# Altium schematic symbol library JWB-001_Main.SCHLIB: 27 symbols
Pins are listed as number, name and electrical type; pins without a type are passive.

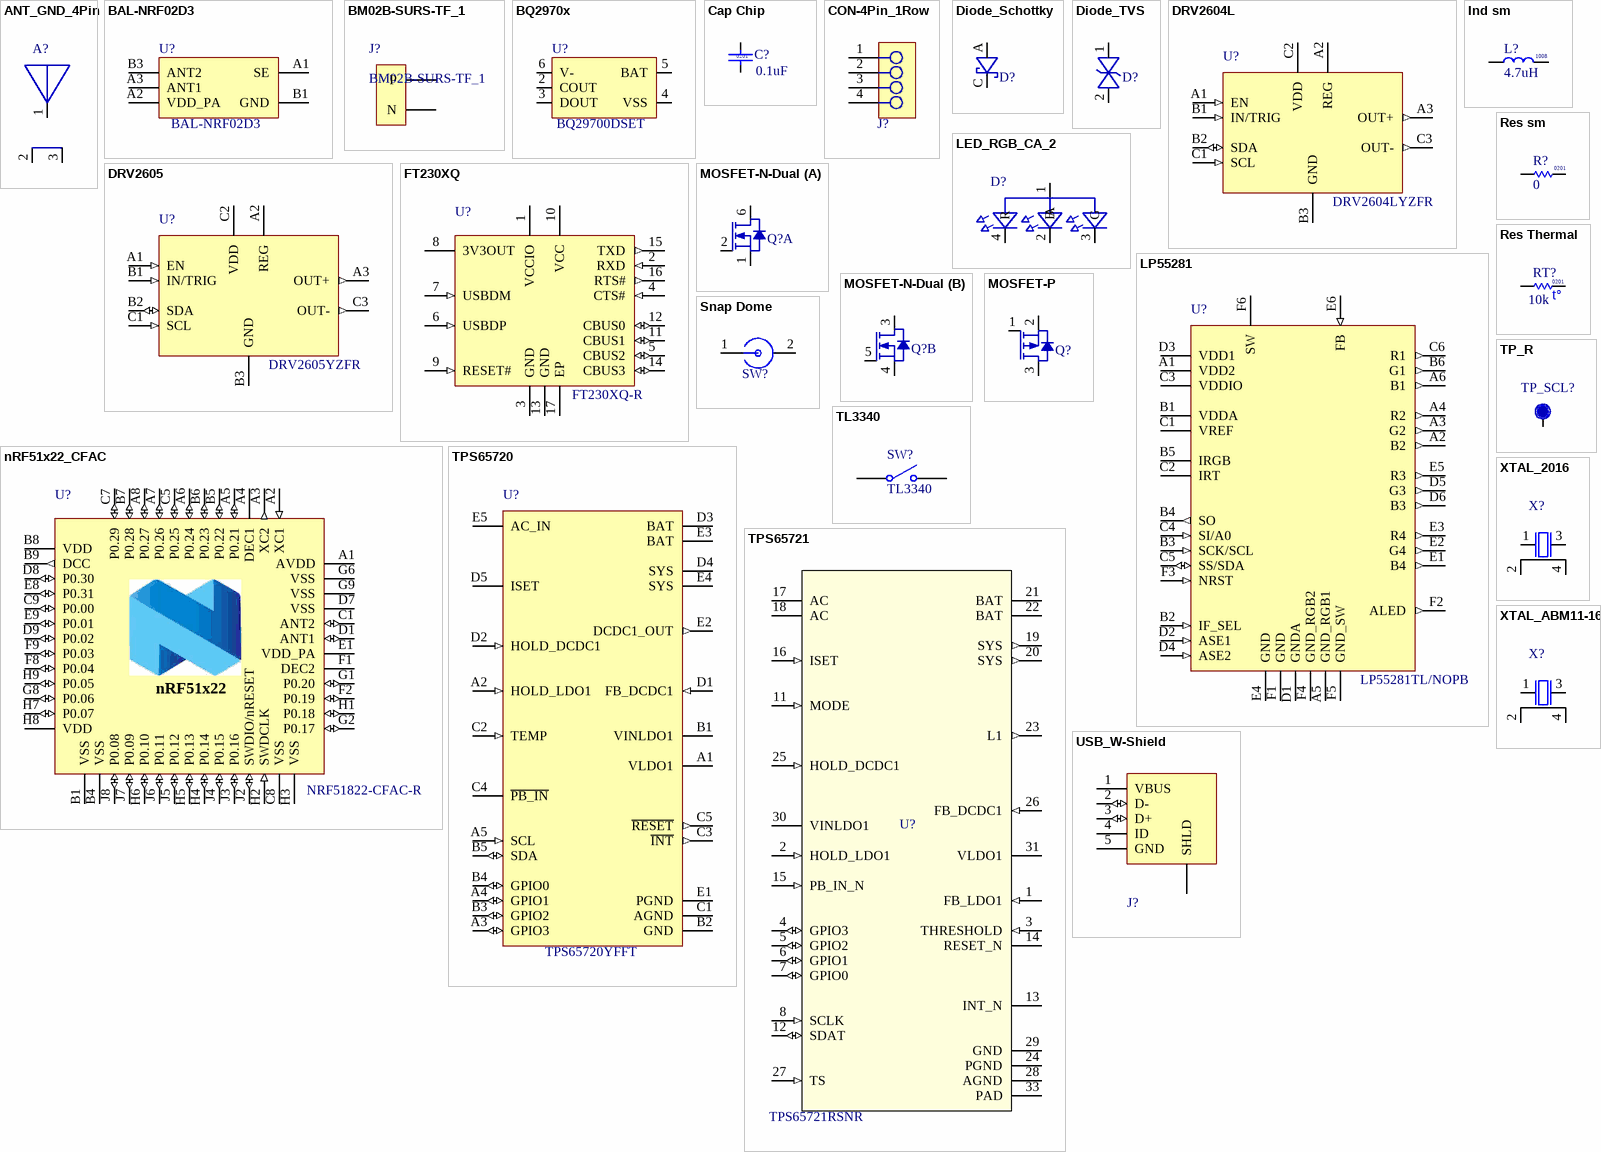
[diagram p0: symbols ANT_GND_4Pin to XTAL_ABM11-16]

## ANT_GND_4Pin
designator A?
ANTENNA SMD EIA 0402 2.4GHZ; MF: Johanson Technology Inc.; MFPN: 2450AT07A0100T; Size: 1mmx0.5mm; Height: 0.37mm; Cost: 1.10000
footprint 2450AT07A0100 (Chip Antenna, 4 pin w/keepout area)
pins: 1, 2 (power), 3 (power)

## BAL-NRF02D3
designator U?  MFPN: BAL-NRF02D3
IC BALUN FOR NRF51822 WLCSP; MF: STMicroelectronics; Size: 1.435mmx.905mm; Cost: 0.80000
footprint BGA0.4P2x3-5Pin (UFBGA, 5 pin 2 row x 3 column, .4mm x .5mm pitch,  1.385mm x .855mm)
pins: A1 SE, A2 VDD_PA, A3 ANT1, B1 GND, B3 ANT2

## BM02B-SURS-TF_1
designator J?
CONN HDR SUR TOP 2POS 0.8MM TIN; MF: JST Sales America Inc.; Pitch: 0.031" (0.80mm); MFPN: BM02B-SURS-TF(LF)(SN); Cost: 0.19072
footprint BM02B-SURS-TF
pins: 1 P, 2 N

## BQ2970x
designator U?  MFPN: BQ29700DSET
IC LITHIUM BATT PROTECT 6-SON; MFG Footprint: DSE (S-PWSON-N6); MF: Texas Instruments; Size: 1.55mm x 1.55mm; Cost: 0.97000
footprint SON0.5P-6Pin (Small Outline No-Lead Package, 0.5pitch, 6 pin, no thermal pad, 1.5mm x 1.5mm)
pins: 1 NC hidden, 2 COUT, 3 DOUT, 4 VSS, 5 BAT, 6 V-

## Cap Chip
designator C?  value 0.1uF  Size: 0201
CAP CER 0.1UF 6.3V 10% X5R 0201; MF: Murata Electronics North America; MFPN: GRM033R60J104KE19D; Cost: 0.10000
simulation model CAP (Semiconductor Capacitor)
signal-integrity model Cap Semi
footprint Cap 0201 HD (Chip Capacitor, 2-Leads, Body 0.60x0.30mm, IPC High Density)
pins: 1, 2

## CON-4Pin_1Row
designator J?
Test points for 4-wire Serial Wire Debugger header Pogo Pin harness, DNP; Size: 4.8mm x 1mm; Cost: 0; MF: N/A; MFPN: N/A
footprint TP10R_1.27P-4Pin (Test Points, 1.0mm Diameter, 1.27mm(0.050") pitch, 4 Pins)
pins: 1, 2, 3, 4

## Diode_Schottky
designator D?
DIODE SCHOTTKY 20V 1A SOD123FL; MF: ON Semiconductor; MFPN: MBR120VLSFT3G; Size: 3.8mm x 1.8mm; Package: SOD-123F; Type: Schottky; Cost: 0.55000
footprint SOD-123F_U (SOD-123F, Unidirectional, 2-Leads, Body 1.65x3.60mm, IPC High Density)
pins: A, C

## Diode_TVS
designator D?
TVS DIODE 6VWM 12VC 0402; MF: TE Connectivity Raychem Circuit Protection; MFPN: SESD0402P1BN-0450-090; Size: 1.1mm x 0.5mm; Type: TVS; Cost: 0.24000
footprint CAP 0402 HD (Chip Capacitor, 2-Leads, Body 1.00x0.50mm, IPC Medium Density)
pins: 1, 2

## DRV2604L
designator U?  MFPN: DRV2604LYZFR
IC ERM/LRA HAPTIC DRIVER 9DSBGA; MF: Texas Instruments; Size: 1.47mm x 1.47mm; Cost: 3.11000
footprint BGA0.5P3x3-9Pin (DSBGA 0.5mm pitch, 3 row x 3 column, 9 Pin, 1.47mm x 1.47mm, TI S-XBGA-N9 YZF)
pins: A1 EN (in), A2 REG (power), A3 OUT+ (out), B1 IN/TRIG (in), B2 SDA (io), B3 GND (power), C1 SCL (in), C2 VDD (power), C3 OUT- (out)

## DRV2605
designator U?  MFPN: DRV2605YZFR
IC ERM/LRA HAPTIC DRIVER 9DSBGA; MF: Texas Instruments; Size: 1.47mm x 1.47mm; Cost: 3.93000
footprint BGA0.5P3x3-9Pin (DSBGA 0.5mm pitch, 3 row x 3 column, 9 Pin, 1.47mm x 1.47mm, TI S-XBGA-N9 YZF)
pins: A1 EN (in), A2 REG (power), A3 OUT+ (out), B1 IN/TRIG (in), B2 SDA (io), B3 GND (power), C1 SCL (in), C2 VDD (power), C3 OUT- (out)

## FT230XQ
designator U?  MFPN: FT230XQ-R
IC USB SERIAL BASIC UART 16QFN; MF: FTDI, Future Technology Devices International Ltd; Height: .8mm; Size: 4.1mm x 4.1mm; Cost: 2.30000
footprint QFN0.65P4x4-16Pin_W-Pad (QFN, 16-Leads, Body 4x4mm, Pitch 0.65mm, Thermal Pad 2.1x2.1mm, IPC High Density)
pins: 1 VCCIO (power) "1V8 -3V3 supply for the IO cells.", 2 RXD (in) "Receiving Asynchronous Data Input.", 3 GND (power) "0V Ground input.", 4 CTS# (in) "Clear To Send Control Input / Handshake Signal.", 5 CBUS2 (io) "Configurable CBUS I/O Pin. Function of this pin is configured in the device MTP memory. The default configuration is TXLED#.", 6 USBDP (in) "USB Data Signal Plus.", 7 USBDM (in) "USB Data Signal Minus.", 8 3V3OUT (power) "3V3 output at 50mA. May be used to power VCCIO. When VCC is 3V3; pin 8 is an input pin and should be connected to pin 10.", 9 RESET# (in) "Reset input (active low).", 10 VCC (power) "5 V (or 3V3) supply to IC.", 11 CBUS1 (io) "Configurable CBUS I/O Pin. Function of this pin is configured in the device MTP memory. The default configuration is RXLED#.", 12 CBUS0 (io) "Configurable CBUS I/O Pin. Function of this pin is configured in the device MTP memory. The default configuration is TXDEN.", 13 GND (power) "0V Ground input.", 14 CBUS3 (io) "Configurable CBUS I/O Pin. Function of this pin is configured in the device MTP memory. The default configuration is SLEEP#.", 15 TXD (out) "Transmit Asynchronous Data Output.", 16 RTS# (out) "Request to Send Control Output / Handshake Signal.", 17 EP (power) "Exposed Pad. Connect to GND."

## Ind sm
designator L?  value 4.7uH  Size: 1008
FIXED IND 4.7UH 1A 250 MOHM SMD; MF: Samsung Electro-Mechanics America, Inc.; MFPN: CIG22B4R7MNE; Cost: 0.56000
footprint IND 1008 (Inductor 1008, 2.7mm x 2.2mm)
pins: 1, 2

## LED_RGB_CA_2
designator D?
LED RGB 3-IN-1 SMD 4PLCC; MF: Cree Inc.; MFPN: CLMVB-FKA-CFHEHLCBB7A363; Size: 2.1mm x 2.1mm; Package: 4-PLCC; Cost: 0.45
footprint 4-PLCC (4 Pin Plastic Leaded Chip Carrier, 2mm x 2mm)
pins: 1 A, 2 B, 3 G, 4 R

## LP55281
designator U?  MFPN: LP55281TL/NOPB
IC LED DRIVER RGLTR DIM 36USMD; MF: Texas Instruments; Size: 3.013mm x 3.013mm; Cost: 2.99000
footprint BGA0.5P6x6-36Pin (BGA,Pitch 0.5mm, 36 Pin 6x6, Body 3x3mm)
pins: A1 VDD2 (power), A2 B2 (out), A3 G2 (out), A4 R2 (out), A5 GND_RGB1 (power), A6 B1 (out), B1 VDDA (power), B2 IF_SEL (in), B3 SCK/SCL (in), B4 SO (out), B5 IRGB, B6 G1 (out), C1 VREF, C2 IRT, C3 VDDIO (power), C4 SI/A0 (in), C5 SS/SDA (io), C6 R1 (out), D1 GNDA (power), D2 ASE1 (in), D3 VDD1 (power), D4 ASE2 (in), D5 G3 (out), D6 B3 (out), E1 B4 (out), E2 G4 (out), E3 R4 (out), E4 GND (power), E5 R3 (out), E6 FB (in), F1 GND (power), F2 ALED (out), F3 NRST (in), F4 GND_RGB2 (power), F5 GND_SW (power), F6 SW (power)

## MOSFET-N-Dual
designator Q?
MOSFET 2N-CH 20V 1.1A SC-70-6; Type: N-MOSFET; MF: Vishay Siliconix; MFPN: SI1902CDL-T1-GE3; Size: 2.4mm x 2.2mm; Cost: 0.48
footprint SC70-6 (SC70-6, 6-Pin, Body 2.00x2.10mm, Pitch 0.65mm, IPC High Density)
part A pins: 1 S1, 2 G1, 6 D1
part B pins: 3 D2, 4 S2, 5 G2

## MOSFET-P
designator Q?
MOSFET P-CH 20V 0.1A VMT3; MF: Rohm Semiconductor; MFPN: RZM001P02T2L; Type: MOSFET-P; Size: 1.2mm x 0.8mm; Package: SOT-723; Cost: 0.22000
footprint SOT-723 (SOT-723, 3-Leads, 1.20mm x 1.20mm, Pitch 0.40mm, IPC High Density)
pins: 1 G, 2 S, 3 D

## nRF51x22_CFAC
designator U?  MFPN: NRF51822-CFAC-R
IC SOC 2.4GHZ MULTIPROTO 62WLCS; MF: Nordic Semiconductor ASA; Cost: 5.36000
footprint CFAC_WLCSP (BGA, 62-Leads, Body 3.83x3.83mmx0.55mm, Pitch 0.40mm)
pins: A1 AVDD (power), A2 XC1 (in), A3 XC2 (out), A4 DEC1 (power), A5 P0.21 (io), A6 P0.24 (io), A7 P0.26 (io), A8 P0.27 (io), B1 VSS (power), B4 VSS (power), B5 P0.22 (io), B6 P0.23 (io), B7 P0.28 (io), B8 VDD (power), B9 DCC (out), C1 ANT2 (io), C5 P0.25 (io), C6 N.C. hidden, C7 P0.29 (io), C8 VSS (power), C9 P0.00 (io), D1 ANT1 (io), D7 VSS (power), D8 P0.30 (io), D9 P0.02 (io), E1 VDD_PA (power), E2 N.C. hidden, E3 N.C. hidden, E7 N.C. hidden, E8 P0.31 (io), E9 P0.01 (io), F1 DEC2 (power), F2 P0.19 (io), F3 N.C. hidden, F7 N.C. hidden, F8 P0.04 (io), F9 P0.03 (io), G1 P0.20 (io), G2 P0.17 (io), G3 N.C. hidden to GND, G4 N.C. hidden to GND, G5 N.C. hidden, G6 VSS (power), G7 N.C. hidden, G8 P0.06 (io), G9 VSS (power), H1 P0.18 (io), H2 SWDCLK (in), H3 VSS (power), H4 P0.14 (io), H5 P0.13 (io), H6 P0.10 (io), H7 P0.07 (io), H8 VDD (power), H9 P0.05 (io), J2 SWDIO/nRESET (io), J3 P0.16 (io), J4 P0.15 (io), J5 P0.12 (io), J6 P0.11 (io), J7 P0.09 (io), J8 P0.08 (io)
text: nRF51x22

## Res sm
designator R?  value 0  Size: 0201
RES SMD 0.0OHM JUMPER 1/20W 0201; MF: Samsung Electro-Mechanics America, Inc.; MFPN: RC0603J000CS; Cost: 0.10000
simulation model RESISTOR (Resistor)
signal-integrity model Res
footprint RES 0201 HD (Resistor, 0201 High Density)
footprint RES 0201
pins: 1, 2

## Res Thermal
designator RT?  value 10k  Size: 0201  (hidden comment: Res Thermal)
THERMISTOR 10K OHM NTC 0201 SMD; MF: Murata Electronics North America; MFPN: NCP03XH103J05RL; Cost: 0.21000
footprint RES 0201 HD (Resistor, 0201 High Density)
footprint RES 0201
pins: 1, 2
text: t°

## Snap Dome
designator SW?
Snap Dome, high activation force, 5.3mm dia; MF: Snaptron; MFPN: GX05170; Size: 5.3mm dia; Cost: 0
footprint GX05170 (Snap dome, 5.3mm dia)
pins: 1, 2

## TL3340
designator SW?
SWITCH TACTILE SPST-NO 0.05A 12V; MF: E-Switch; MFPN: TL3340AF160QG; Size: 4.00mm x 3.30mm; Cost: 0.56000
footprint TL3340
pins: 1 COMMON, 2 NO

## TP_R
designator TP_SCL?, comment TP  (value not drawn)
Testpoint, Round 1.0mm Dia; MFPN: DNP; Size: 1.0mm; Cost: 0; MF: N/A
footprint TP10R (Testpoint, Round 1.0mm Dia)
pins: 1

## TPS65720
designator U?  MFPN: TPS65720YFFT
PMU for IC PMU 2CH CONV/LDO 25DSBGA; MFG Footprint: S-XBGA-N25; MF: Texas Instruments; Size: 2.12mm x 2.12mm; Cost: 4.79000
footprint BGA0.4P5x5-25Pin (XBGA 0.4mm pitch, 5 row x 5 column, 25 Pin, 2mm x 2mm, TI S-XBGA-N25 YFF)
pins: A1 VLDO1 (power), A2 HOLD_LDO1 (in), A3 GPIO3 (io), A4 GPIO1 (io), A5 SCL (in), B1 VINLDO1 (power), B2 GND (power), B3 GPIO2 (io), B4 GPIO0 (io), B5 SDA (io), C1 AGND (power), C2 TEMP (in), C3 ~{INT} (out), C4 ~{PB_IN}, C5 ~{RESET} (out), D1 FB_DCDC1 (in), D2 HOLD_DCDC1 (in), D3 BAT (power), D4 SYS (power), D5 ISET, E1 PGND (power), E2 DCDC1_OUT (out), E3 BAT (power), E4 SYS (power), E5 AC_IN (power)

## TPS65721
designator U?, comment TPS65721RSNR
IC PMU 2CH CONV/LDO 32QFN; MF: Texas Instruments; Application_BuildNumber: *; Cost: 1.12000; MFPN: TPS65721RSNR
footprint 32-QFN (4x4) (32-WFQFN Exposed Pad, SMT)
pins: 1 FB_LDO1 (in), 2 HOLD_LDO1 (in), 3 THRESHOLD (in), 4 GPIO3 (io), 5 GPIO2 (io), 6 GPIO1 (io), 7 GPIO0 (io), 8 SCLK (in), 11 MODE (in), 12 SDAT (io), 13 INT_N (oc), 14 RESET_N (oc), 15 PB_IN_N (in), 16 ISET (in), 17 AC (power), 18 AC (power), 19 SYS (out), 20 SYS (out), 21 BAT (power), 22 BAT (power), 23 L1 (out), 24 PGND (power), 25 HOLD_DCDC1 (in), 26 FB_DCDC1 (in), 27 TS (in), 28 AGND (power), 29 GND (power), 30 VINLDO1 (power), 31 VLDO1 (power), 33 PAD (power)

## USB_W-Shield
designator J?
CONN USB MICRO B RECPT SMT R/A; MF: FCI; MFPN: 10118194-0001LF; Size: 8mm x 5mm; Cost: 0.46000
footprint USB_Micro_RA_W-TABS (USB Micro-AB Connector, 5-Leads, Pitch 0.65mm, 8mm x 5mm)
pins: 1 VBUS (power), 2 D- (io), 3 D+ (io), 4 ID, 5 GND (power), 6 SHLD

## XTAL_2016
designator X?
CRYSTAL 16.00 MHZ 9.0PF SMD; MF: EPSON; MFPN: FA-128 16.0000MF10Z-AC0; Size: 2.0mm x 1.6mm; Cost: 0.60000
footprint XTAL_2016 (Crystal, 4 lead, 2.0mm x 1.6mm)
pins: 1, 2, 3, 4

## XTAL_ABM11-16
designator X?
CRYSTAL 16.0000MHZ 10PF SMD; MF: Abracon LLC; MFPN: ABM11-16.000MHZ-B7G-T; Size: 2.0mm x 1.6mm; Cost: 0.60000
footprint XTAL_ABM11-16 (Crystal, 4 lead, 2.0mm x 1.6mm)
pins: 1, 2, 3, 4